# EAGLE library part IBMXTBUS (library connect)
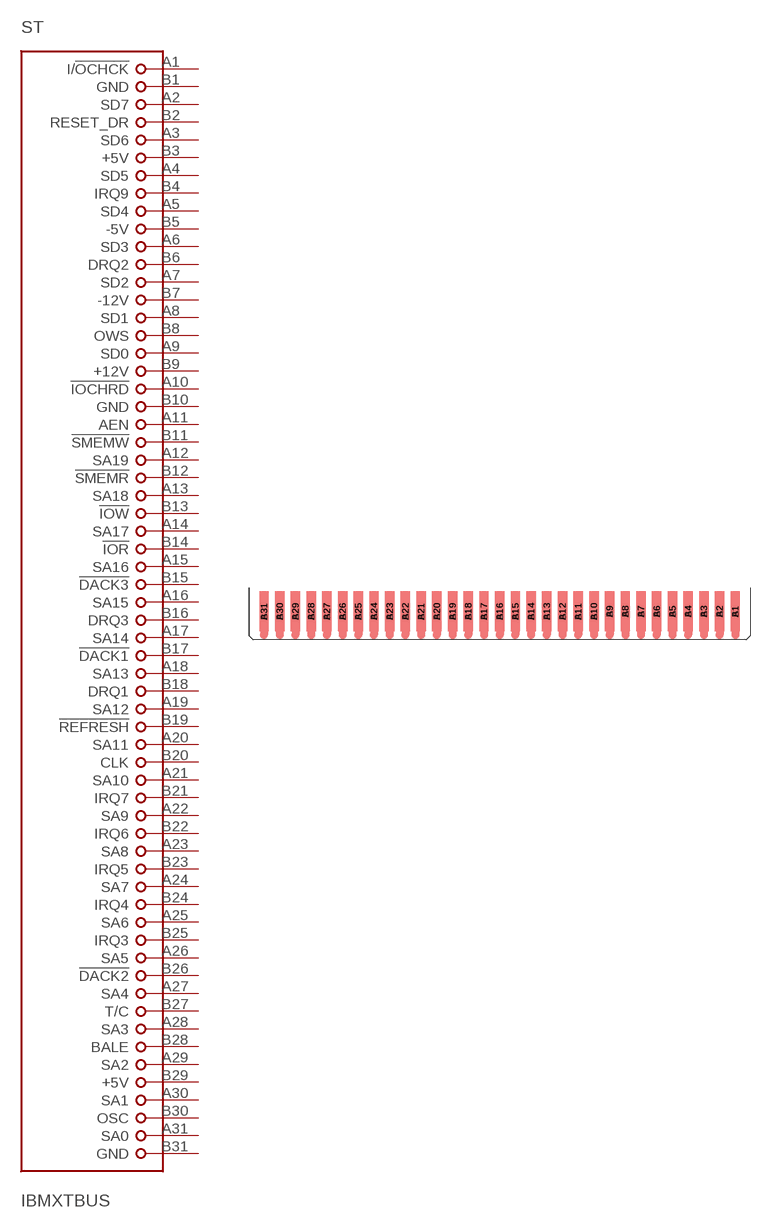
[diagram p18: symbol with the pads of IBM-XT; footprint IBM-XT]

Designator prefix ST

## IBMXTBUS  [IBM-XT]
A1  I/!OCHCK  in
A2  SD7
A3  SD6
A4  SD5
A5  SD4
A6  SD3
A7  SD2
A8  SD1
A9  SD0
A10  !IOCHRD  in
A11  AEN  out
A12  SA19
A13  SA18
A14  SA17
A15  SA16
A16  SA15
A17  SA14
A18  SA13
A19  SA12
A20  SA11
A21  SA10
A22  SA9
A23  SA8
A24  SA7
A25  SA6
A26  SA5
A27  SA4
A28  SA3
A29  SA2
A30  SA1
A31  SA0
B1  GND  pwr
B2  RESET_DR  out
B3  +5V  pwr
B4  IRQ9  in
B5  -5V  pwr
B6  DRQ2  in
B7  -12V  pwr
B8  OWS  in
B9  +12V  pwr
B10  GND  pwr
B11  !SMEMW  out
B12  !SMEMR  out
B13  !IOW
B14  !IOR
B15  !DACK3  out
B16  DRQ3  in
B17  !DACK1  out
B18  DRQ1  in
B19  !REFRESH
B20  CLK  out
B21  IRQ7  in
B22  IRQ6  in
B23  IRQ5  in
B24  IRQ4  in
B25  IRQ3  in
B26  !DACK2  out
B27  T/C  out
B28  BALE  out
B29  +5V  pwr
B30  OSC  out
B31  GND  pwr

## Footprint IBM-XT (pad centres in mm)
smd 1.524 x 6.477: A1 38.1,0.635; A2 35.56,0.635; A3 33.02,0.635; A4 30.48,0.635; A5 27.94,0.635; A6 25.4,0.635; A7 22.86,0.635; A8 20.32,0.635; A9 17.78,0.635; A10 15.24,0.635; A11 12.7,0.635; A12 10.16,0.635; A13 7.62,0.635; A14 5.08,0.635; A15 2.54,0.635; A16 0,0.635; A17 -2.54,0.635; A18 -5.08,0.635; A19 -7.62,0.635; A20 -10.16,0.635; A21 -12.7,0.635; A22 -15.24,0.635; A23 -17.78,0.635; A24 -20.32,0.635; A25 -22.86,0.635; A26 -25.4,0.635; A27 -27.94,0.635; A28 -30.48,0.635; A29 -33.02,0.635; A30 -35.56,0.635; A31 -38.1,0.635
smd 1.524 x 6.477 bottom: B1 38.1,0.635; B2 35.56,0.635; B3 33.02,0.635; B4 30.48,0.635; B5 27.94,0.635; B6 25.4,0.635; B7 22.86,0.635; B8 20.32,0.635; B9 17.78,0.635; B10 15.24,0.635; B11 12.7,0.635; B12 10.16,0.635; B13 7.62,0.635; B14 5.08,0.635; B15 2.54,0.635; B16 0,0.635; B17 -2.54,0.635; B18 -5.08,0.635; B19 -7.62,0.635; B20 -10.16,0.635; B21 -12.7,0.635; B22 -15.24,0.635; B23 -17.78,0.635; B24 -20.32,0.635; B25 -22.86,0.635; B26 -25.4,0.635; B27 -27.94,0.635; B28 -30.48,0.635; B29 -33.02,0.635; B30 -35.56,0.635; B31 -38.1,0.635